# Altium footprint library LF_452_454.PcbLib: 1 footprints
Each footprint in its own frame and in the unit in brackets; x right, y up, seen from the top. Pads: shape width x height; smd on the part's side, far side on the other; paste and mask are expansions set on the pad; w line width, h text height; cw(c..) or ccw(c..) is an arc to the next point about the centre after c.
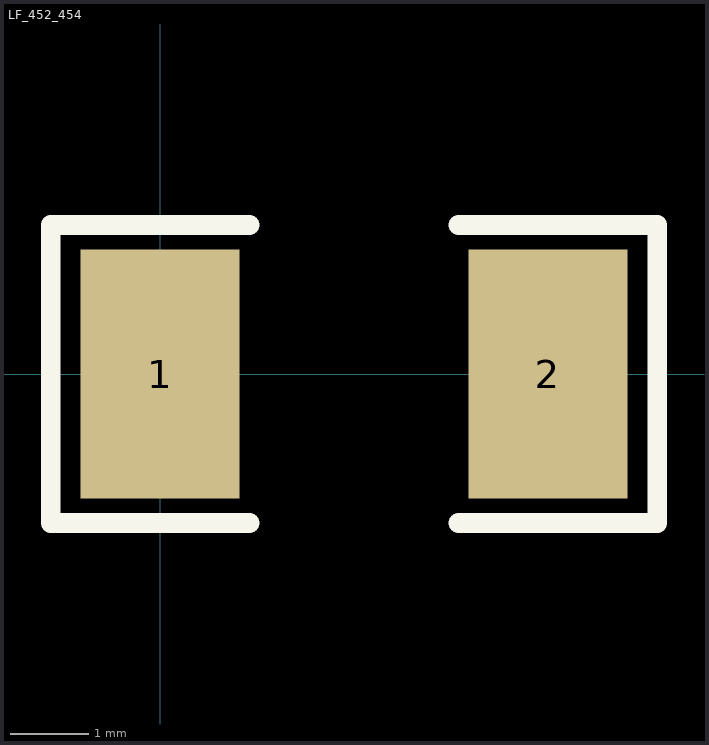
[diagram p0: the footprint, top view; thin cyan lines are the x and y axes]

## LF_452_454 [mil]
pads (2):
  rect 80x125 smd: 1(0,0) 2(195,0)
Top Overlay:
  lines w10: 45,-75 -55,-75 -55,75 45,75 ; 150,-75 250,-75 250,75 150,75